# Altium schematic symbol library SCH - POWER - LINEAR VREG - TI TPS715A33DRV.SchLib: 1 symbol
Pins are listed as number, name and electrical type; pins without a type are passive.

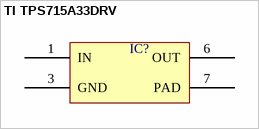
[diagram p0: symbol TI TPS715A33DRV]

## TI TPS715A33DRV
designator IC?  (value not drawn)
pins: 1 IN, 3 GND, 6 OUT, 7 PAD